# Altium footprint library DX07_USB_C.PcbLib: 1 footprints
Each footprint in its own frame and in the unit in brackets; x right, y up, seen from the top. Pads: shape width x height; smd on the part's side, far side on the other; paste and mask are expansions set on the pad; w line width, h text height; cw(c..) or ccw(c..) is an arc to the next point about the centre after c.
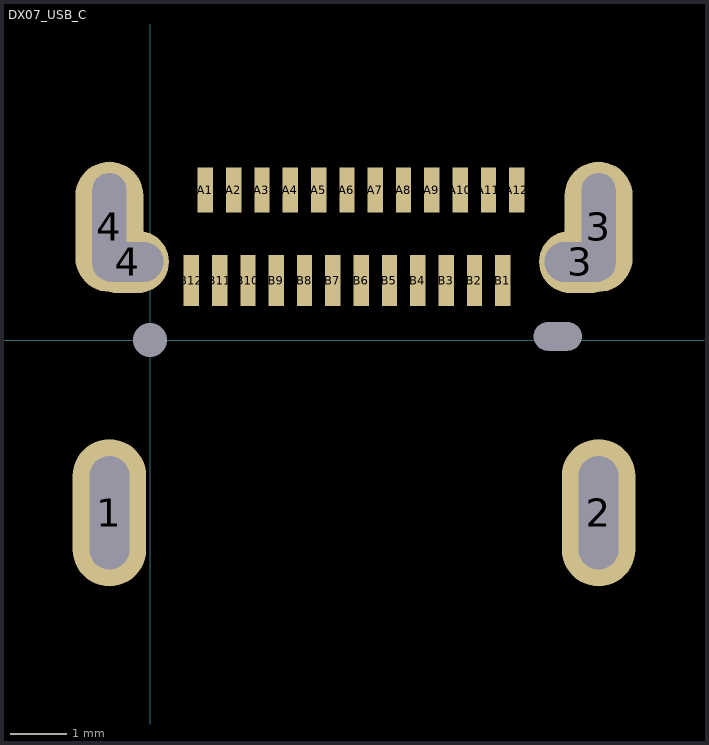
[diagram p0: the footprint, top view; thin cyan lines are the x and y axes]

## DX07_USB_C [mm] "DX07S024JJ2R1300"
height 4.14
pads (32):
  oval 1.3x2.6 hole 0.7 slot 2 at 90 deg: 1(-0.72,-3.05) 2(7.92,-3.05)
  oval 1.45x1.1 hole 0.7 slot 1.25 at 0 deg: 3(7.594,1.38) 4(-0.394,1.38)
  oval 1.2x2.3 hole 0.6 slot 1.9 at 90 deg: 3(7.92,2) 4(-0.72,2)
  rect 0.27x0.8 smd: A1(0.975,2.649) A2(1.475,2.649) A3(1.975,2.649) A4(2.475,2.649) A5(2.975,2.649) A6(3.475,2.649) A7(3.975,2.649) A8(4.475,2.649) A9(4.975,2.649) A10(5.475,2.649) A11(5.975,2.649) A12(6.475,2.649)
  rect 0.27x0.9 smd: B1(6.227,1.049) B2(5.727,1.049) B3(5.227,1.049) B4(4.727,1.049) B5(4.227,1.049) B6(3.727,1.049) B7(3.227,1.049) B8(2.727,1.049) B9(2.227,1.049) B10(1.727,1.049) B11(1.227,1.049) B12(0.727,1.049)
  round 0 hole 0.6 unplated: ""(0,0)
  round 0 hole 0.5 slot 0.85 at 0 deg unplated: ""(7.2,0.065)
Mechanical 1:
  lines w0.1: 7.2,0 7.2,0.065
3D body "K3D-DX07S024JJ2-V1_JAE_Proprietary.STEP": height 3.17, standoff -0.6, extent -0.86,-5.345 8.08,2.825